# Altium schematic symbol library mcu_nordic.SchLib: 1 symbol
Pins are listed as number, name and electrical type; pins without a type are passive.

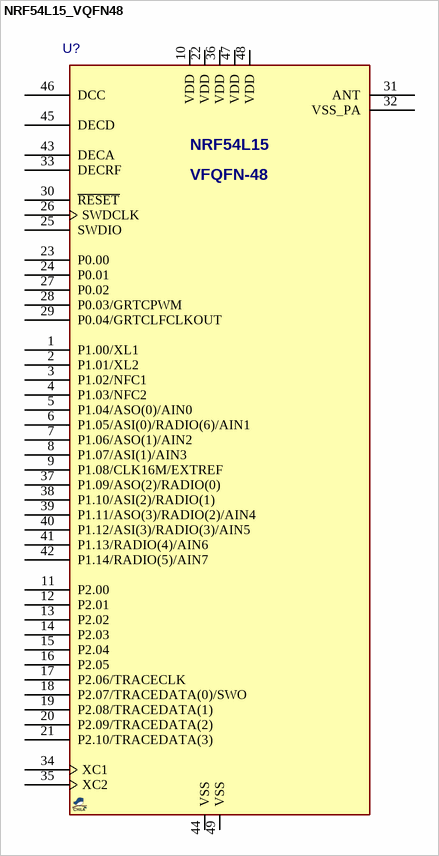
[diagram p0: symbol NRF54L15_VQFN48]

## NRF54L15_VQFN48
designator U?, comment NRF54L15  (value not drawn)
NRF54L15 Wireless SOC; MANF: Nordic; MANF_P#: NRF54L15-QFAA; PARAM2: 1.7~3.6v; PRICE: 4$; VALUE: NRF54L15; PACKAGE: VFQFN-48
footprint QFN40_48T (QFN, 48-Leads, Body 6.00x6.00mm, Pitch 0.40mm, Thermal Pad 4.40x4.40mm)
pins: 1 P1.00/XL1, 2 P1.01/XL2, 3 P1.02/NFC1, 4 P1.03/NFC2, 5 P1.04/ASO(0)/AIN0, 6 P1.05/ASI(0)/RADIO(6)/AIN1, 7 P1.06/ASO(1)/AIN2, 8 P1.07/ASI(1)/AIN3, 9 P1.08/CLK16M/EXTREF, 10 VDD, 11 P2.00, 12 P2.01, 13 P2.02, 14 P2.03, 15 P2.04, 16 P2.05, 17 P2.06/TRACECLK, 18 P2.07/TRACEDATA(0)/SWO, 19 P2.08/TRACEDATA(1), 20 P2.09/TRACEDATA(2), 21 P2.10/TRACEDATA(3), 22 VDD, 23 P0.00, 24 P0.01, 25 SWDIO, 26 SWDCLK, 27 P0.02, 28 P0.03/GRTCPWM, 29 P0.04/GRTCLFCLKOUT, 30 ~{RESET}, 31 ANT, 32 VSS_PA, 33 DECRF, 34 XC1, 35 XC2, 36 VDD, 37 P1.09/ASO(2)/RADIO(0), 38 P1.10/ASI(2)/RADIO(1), 39 P1.11/ASO(3)/RADIO(2)/AIN4, 40 P1.12/ASI(3)/RADIO(3)/AIN5, 41 P1.13/RADIO(4)/AIN6, 42 P1.14/RADIO(5)/AIN7, 43 DECA, 44 VSS, 45 DECD, 46 DCC, 47 VDD, 48 VDD, 49 VSS